# Altium schematic symbol library Switches.SchLib: 5 symbols
Pins are listed as number, name and electrical type; pins without a type are passive.

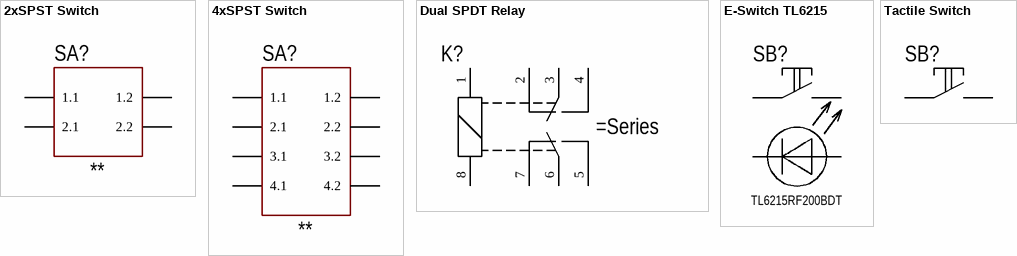
[diagram p0: symbols 2xSPST Switch to Tactile Switch]

## 2xSPST Switch
designator SA?, comment **
Dual SPST Switch; Series: *; Value: *
pins: 1 1.1, 2 2.1, 3 2.2, 4 1.2

## 4xSPST Switch
designator SA?, comment **
Quad SPST Switch; Series: *; Value: *
pins: 1 1.1, 2 2.1, 3 3.1, 4 4.1, 5 4.2, 6 3.2, 7 2.2, 8 1.2

## Dual SPDT Relay
designator K?
Generic Dual SPDT Relay
pins: 1, 2, 3, 4, 5, 6, 7, 8

## E-Switch TL6215
designator SB?, comment TL6215RF200BDT
TL6215 Series Illuminated Sealed Tact Switch; Force: F200; LED: B; Cap: D; Termination: R; Color: T; Part: TL6215
pins: 1, 2, 3, 4

## Tactile Switch
designator SB?
Tactile Switch Schematic Symbol
pins: 1, 2